# Altium schematic symbol library XoomFloppy Pro.SCHLIB: 23 symbols
Pins are listed as number, name and electrical type; pins without a type are passive.

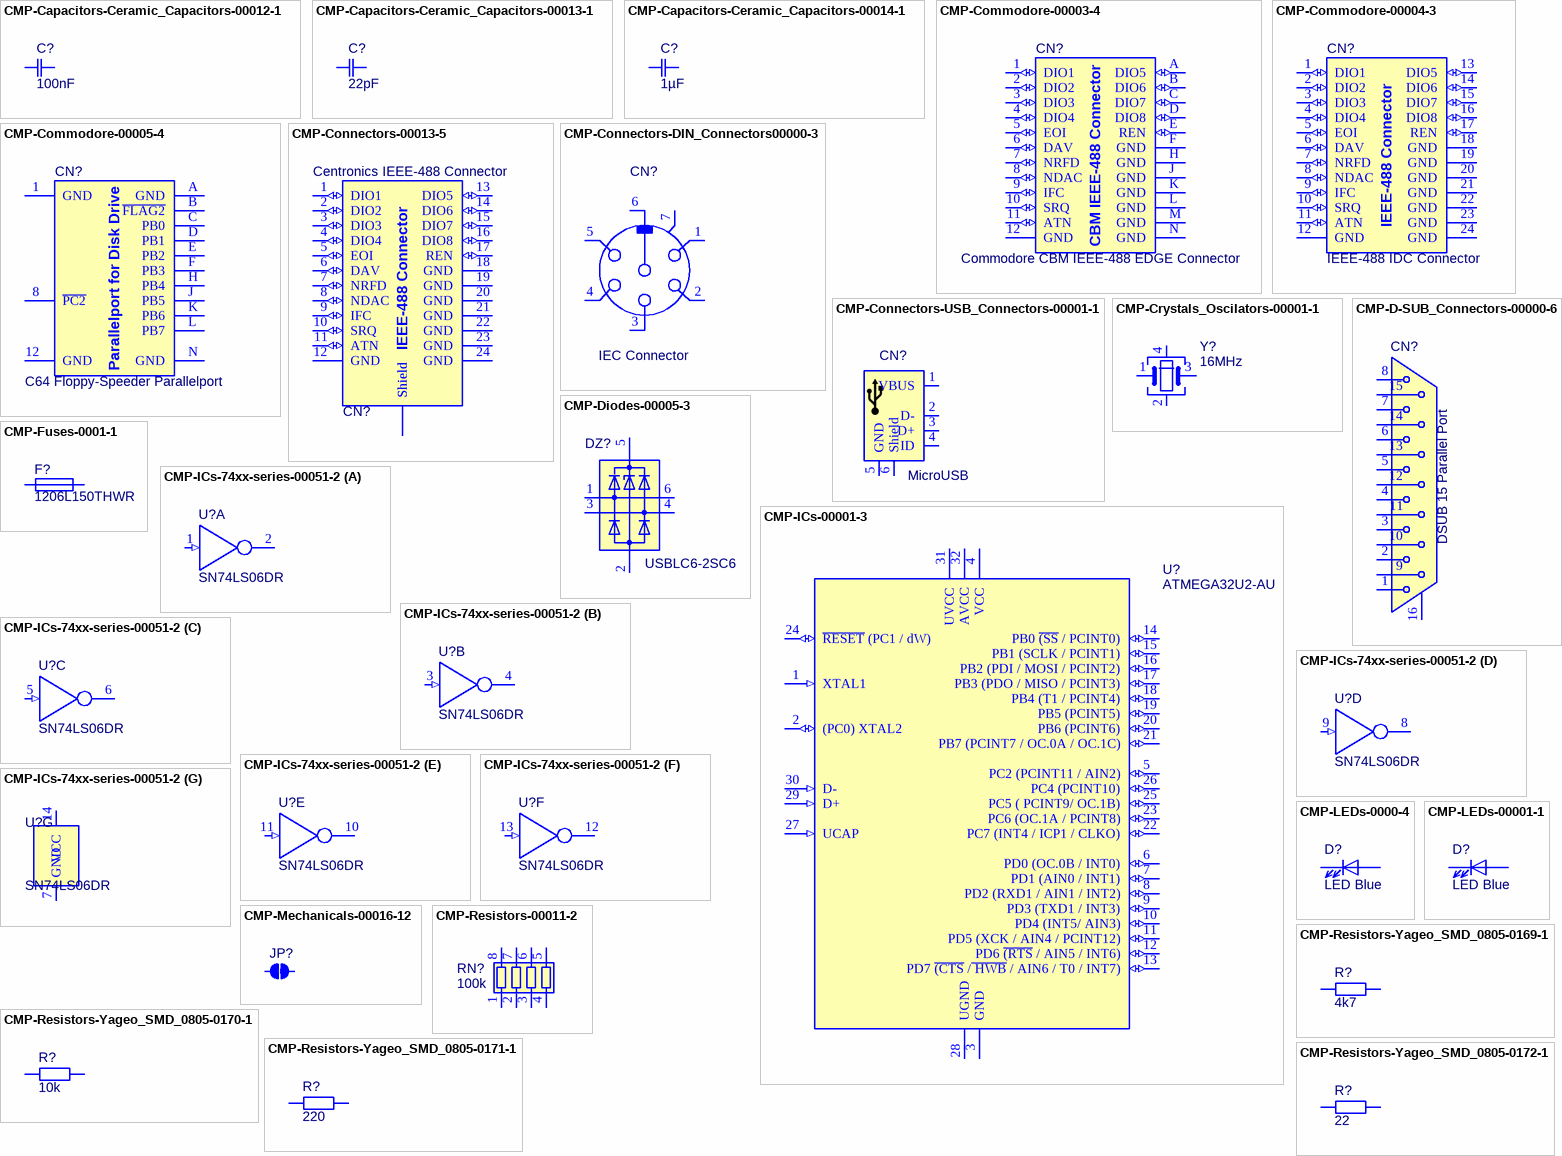
[diagram p0: symbols CMP-Capacitors-Ceramic_Capacitors-00012-1 to CMP-Resistors-Yageo_SMD_0805-0172-1]

## CMP-Capacitors-Ceramic_Capacitors-00012-1
designator C?, comment 100nF
KEMET         C0603C104J3RACTU             SMD Multilayer Ceramic Capacitor, 0603 [1608 Metric], 0.1 F, 25 V,  5%, X7R, C Series; Voltage Rating (DC): 25V; Height: 0.8mm; Dielectric: X7R; Case Code (Metric): 1608; Width: 0.031inch; Depth: 0.8mm; Min Operating Temperature: -55°C; Number of Pins: 2; Mount: Surface Mount,PCB; REACH SVHC: No SVHC; Packaging: Tape and Reel; Case Code (Imperial): 0603; Contact Plating: Tin,Matte; Length: 1.6mm; Case/Package: 0603; Lead Pitch: 0.7mm; Package Quantity: 4000; Tolerance: 5%; Radiation Hardening: No; Dielectric Material: Ceramic; Voltage: 25V; Termination: SMD/SMT; Capacitance: 100nF; Voltage Rating: 25V; Thickness: 0.034inch; Max Operating Temperature: 125°C; Manufacturer: KEMET; Manufacturer Part Number: C0603C104J3RACTU; Component Type: Ceramic Capacitors
footprint CAP 100nF SMD 0603 C0603C104J3RACTU (Chip Capacitor, 2-Leads, Body 1,60x0,80mm, IPC Medium Density)
pins: 1, 2

## CMP-Capacitors-Ceramic_Capacitors-00013-1
designator C?, comment 22pF
22.0PF 50.0V; Manufacturer: KEMET; Manufacturer Part Number: C0603C220J5RACTU; Tolerance: 5%; Dielectric: X7R; Voltage Rating (DC): 50V; Dielectric Material: Ceramic; Capacitance: 2.2E-11F; Case/Package: 0603; Component Type: Ceramic Capacitors
footprint CAP 22pF SMD 0603 C0603C220J5RAC7867 (Chip Capacitor, 2-Leads, Body 1,60x0,80mm, IPC Medium Density)
pins: 1, 2

## CMP-Capacitors-Ceramic_Capacitors-00014-1
designator C?, comment 1µF
KEMET 1F Multilayer Ceramic Capacitor (MLCC) 25 V 10% X7R dielectric C SMD max op. temp. +125C; Manufacturer Part Number: C0603C105K3RACTU; Dissipation Factor: 5%; Voltage Rating: 25V; Capacitance: 1uF; Case Code (Imperial): 0603; Termination: SMD/SMT; Thickness: 0.034inch; REACH SVHC: No SVHC; Depth: 0.8mm; Width: 0.031inch; Case Code (Metric): 1608; Min Operating Temperature: -55°C; Dielectric: X7R; Package Quantity: 1; Packaging: Tape and Reel; Height: 0.8mm; Max Operating Temperature: 125°C; Tolerance: 10%; Voltage Rating (DC): 25V; Voltage: 25V; Dielectric Material: Ceramic; Case/Package: 0603; Mount: Surface Mount; Length: 1.6mm; Manufacturer: KEMET; Component Type: Ceramic Capacitors
footprint CAP 1µF SMD 0603 C0603C105K3RACTU (Chip Capacitor, 2-Leads, Body 1,60x0,80mm, IPC Medium Density)
pins: 1, 2

## CMP-Commodore-00003-4
designator CN?, comment Commodore CBM IEEE-488 EDGE Connector
PCB connector for connecting IEEE-488 devices; Component Type: Commodore
footprint CBM IEEE-488 EDGE Connector
pins: 1 DIO1 (io), 2 DIO2 (io), 3 DIO3 (io), 4 DIO4 (io), 5 EOI (io), 6 DAV (io), 7 NRFD (io), 8 NDAC (io), 9 IFC (io), 10 SRQ (io), 11 ATN (io), 12 GND, A DIO5 (io), B DIO6 (io), C DIO7 (io), D DIO8 (io), E REN (io), F GND, H GND, J GND, K GND, L GND, M GND, N GND
text: CBM IEEE-488 Connector

## CMP-Commodore-00004-3
designator CN?, comment IEEE-488 IDC Connector
IEEE-488 IDC Connector Right Angle or Straight; Component Type: Commodore
footprint IEEE-488 IDC Header 2x12 P2.54mm Straight
footprint IEEE-488 IDC Header 2x12 P2.54mm Right Angle
pins: 1 DIO1 (io), 2 DIO2 (io), 3 DIO3 (io), 4 DIO4 (io), 5 EOI (io), 6 DAV (io), 7 NRFD (io), 8 NDAC (io), 9 IFC (io), 10 SRQ (io), 11 ATN (io), 12 GND, 13 DIO5 (io), 14 DIO6 (io), 15 DIO7 (io), 16 DIO8 (io), 17 REN (io), 18 GND, 19 GND, 20 GND, 21 GND, 22 GND, 23 GND, 24 GND
text: IEEE-488 Connector

## CMP-Commodore-00005-4
designator CN?, comment C64 Floppy-Speeder Parallelport
EDGE Connector like C64 Userport for "SpeedDOS"; Component Type: Commodore
footprint C64 User Port (C64 User Port Edge Connector)
pins: 1 GND, 2 N/C hidden, 3 N/C hidden, 4 N/C hidden, 5 N/C hidden, 6 N/C hidden, 7 N/C hidden, 8 ~{PC2}, 9 N/C hidden, 10 N/C hidden, 11 N/C hidden, 12 GND, A GND, B ~{FLAG2}, C PB0, D PB1, E PB2, F PB3, H PB4, J PB5, K PB6, L PB7, M N/C hidden, N GND
text: Parallelport for Disk Drive

## CMP-Connectors-00013-5
designator CN?, comment Centronics IEEE-488 Connector
L-COM - CIB24SRA - CONNECTOR GPIB R/A FEMALE; Manufacturer: L-Com; Manufacturer Part Number: CIB24SRA; Component Type: Connectors
footprint GPIB Centronics Female 2x12pos. Connector
pins: 1 DIO1 (io), 2 DIO2 (io), 3 DIO3 (io), 4 DIO4 (io), 5 EOI (io), 6 DAV (io), 7 NRFD (io), 8 NDAC (io), 9 IFC (io), 10 SRQ (io), 11 ATN (io), 12 GND, 13 DIO5 (io), 14 DIO6 (io), 15 DIO7 (io), 16 DIO8 (io), 17 REN (io), 18 GND, 19 GND, 20 GND, 21 GND, 22 GND, 23 GND, 24 GND, H1 Hole hidden, H2 Hole hidden, Shield1 Shield, Shield2 Shield
text: IEEE-488 Connector

## CMP-Connectors-DIN_Connectors00000-3
designator CN?, comment IEC Connector
DIN chassis socket, right angle version, with ground contact, suitable for locking, for printed circuit boards; Manufacturer: Lumberg; Manufacturer Part Number: 010599 06; Component Type: DIN Connectors
footprint DIN 45322 Circular Connector (DIN-6)
pins: 1, 2, 3, 4, 5, 6, 7, 8

## CMP-Connectors-USB_Connectors-00001-1
designator CN?, comment MicroUSB
Socket micro-USB B 5P, 629105150521, Würth Elektronik; Manufacturer: Wurth Electronics; Gender: Receptacle; Number of Contacts: 5; USB Standard: USB 2.0; Connector Type: USB; Orientation: Right Angle; Lead Free: Lead Free; Mount: Surface Mount,Horizontal; REACH SVHC: Unknown; Contact Plating: Gold; Packaging: Tape and Reel; Termination: SMD/SMT; Features: Shielded; Contact Material: Copper Alloy; Manufacturer Part Number: 629105150521; Component Type: USB Connectors
footprint MicroUSB Connector Right Angle Receptacle (Würth 629105150521)
pins: 1 VBUS (power), 2 D-, 3 D+, 4 ID (power), 5 GND (power), 6 Shield, 7 Shield, 8 Shield, 9 Shield, 10 Mounting Hole hidden, 11 Mounting Hole hidden

## CMP-Crystals_Oscilators-00001-1
designator Y?, comment 16MHz
16MHz ±10ppm 9pF 200Ω SMD,2.0x1.6mm SMD Crystal Resonators RoHS; Manufacturer: Raltron Electronics; Manufacturer Part Number: R2016-16.000-9-1010-TR-NS1; Component Type: Crystals and Oscilators
footprint Crystal 16MHz SMD 2.0x1.6mm 4pos GND2-4
pins: 1, 2, 3, 4

## CMP-D-SUB_Connectors-00000-6
designator CN?, comment DSUB 15 Parallel Port
HARTING         09 64 223 7802             Filtered D Sub Connector, Ferrite, DA, Plug, 15 Contacts, 0 F, Steel Body; Manufacturer: HARTING Technology; Current Rating: 7.5A; Number of Positions: 15; Gender: Male; Pitch: 2.77mm; Capacitance: 0pF; Connector Type: D-Sub,Plug,Signal; Voltage Rating: 250V; Orientation: Right Angle; Min Operating Temperature: -55°C; Contact Plating: Gold; Width: 18.5mm; Termination: Solder; Max Operating Temperature: 105°C; Package Quantity: 70; Length: 39.2mm; Depth: 12.5mm; Number of Contacts: 15; Number of Rows: 2; Housing Material: PBT; Material: Polybutylene; Packaging: Bulk; Mount: Through Hole,Panel; Body Material: Steel; REACH SVHC: No SVHC; Manufacturer Part Number: 09642237802; Component Type: D-SUB Connectors
footprint D-SUB 15 Male Connector Right Angle 8.1mm
pins: 1, 2, 3, 4, 5, 6, 7, 8, 9, 10, 11, 12, 13, 14, 15, 16, 17

## CMP-Diodes-00005-3
designator DZ?, comment USBLC6-2SC6
TVS DIODE 5.25V 17V SOT23-6; Manufacturer: STMicroelectronics; Working Voltage: 5V; Test Current: 1mA; Direction: Unidirectional,Bidirectional; Leakage Current: 150nA; Capacitance: 3.5pF; Number of Bidirectional Channels: 2; Max Breakdown Voltage: 6V; ESD Protection: Yes; Operating Supply Voltage: 1.1V; Element Configuration: Dual; Peak Pulse Current: 5A; Number of Elements: 1; Data Rate: 480Mbps; Package Quantity: 3000; Max Operating Temperature: 125°C; Width: 1.75mm; Contact Plating: Tin,Matte; Packaging: Tape and Reel; Termination: SMD/SMT; Max Reverse Leakage Current: 150nA; Min Operating Temperature: -40°C; Power Line Protection: Yes; Radiation Hardening: No; REACH SVHC: No SVHC; Breakdown Voltage: 6V; Length: 3.05mm; Clamping Voltage: 17V; Mount: Surface Mount; Depth: 1.75mm; Number of Pins: 6; Reverse Standoff Voltage: 5.25V; Number of Channels: 2; Min Breakdown Voltage: 6V; Height: 1.3mm; Reverse Breakdown Voltage: 6V; Polarity: Unidirectional,Bidirectional; Case/Package: SOT-23; Lead Free: Lead Free; Manufacturer Part Number: USBLC6-2SC6; Component Type: Diodes
footprint USBLC6-2SC6 (ESD Suppressors / TVS Diodes ESD Protection Low Cap)
pins: 1, 2, 3, 4, 5, 6

## CMP-Fuses-0001-1
designator F?, comment 1206L150THWR
PTC RESET FUSE 8V 1.5A 1206; Manufacturer: Littelfuse; Time to Trip: 0.3s; Working Voltage: 6V; Current Rating: 100A; Resistance: 120mR; Power Dissipation: 800mW; Approvals: cULus,TUV; Trip Current: 3A; Voltage Rating: 8V; Package Quantity: 3000; Packaging: Tape and Reel; Termination: SMD/SMT; Length: 3.4mm; REACH SVHC: Unknown; Terminal Material: Copper; Voltage Rating (DC): 8V; Max Operating Temperature: 85°C; Min Operating Temperature: -40°C; Lead Free: Lead Free; Case Code (Metric): 3216; Hold Current: 1.5A; Width: 1.8mm; Height: 0.75mm; Operating Supply Voltage: 8V; Max Current Rating: 100A; Max Voltage Rating (DC): 8V; Case Code (Imperial): 1206; Case/Package: 1206; Manufacturer Part Number: 1206L150THWR; Component Type: Fuses
footprint Littelfuse 1206L150THWR
pins: 1, 2

## CMP-ICs-00001-3
designator U?, comment ATMEGA32U2-AU
ATMEL         ATMEGA32U2-AU            MCU, 8BIT, MEGAAVR, 16MHZ, TQFP-32; Manufacturer: Microchip / Atmel; Core Architecture: AVR; Max Supply Voltage: 5.5V; Peripherals: Brown-out Detect/Reset,POR,PWM,WDT; Density: 32KB; Oscillator Type: Internal; Min Supply Voltage: 2.7V; Number of PWM Channels: 5; Number of Timers/Counters: 2; Memory Type: FLASH; Number of SPI Channels: 1; Watchdog Timer: Yes; Data Bus Width: 8b; Interface: SPI,USB,UART,USART; Number of I/Os: 22; RAM Size: 1KB; Frequency: 16MHz; Height: 1.05mm; Termination: SMD/SMT; Max Frequency: 16MHz; Number of Pins: 32; Packaging: Tray; Lead Free: Lead Free; Max Operating Temperature: 85°C; REACH SVHC: No SVHC; Memory Size: 32KB; Mount: Surface Mount; Radiation Hardening: No; Contact Plating: Tin,Matte; Package Quantity: 1250; Width: 7mm; Number of Programmable I/O: 22; Length: 7mm; Min Operating Temperature: -40°C; Case/Package: A; Manufacturer Part Number: ATMEGA32U2-AU; Component Type: Processors
footprint TQFP-32 P0.8mm 7x7mm ATMega32u2 (TQFP, 32-Leads, Body 7,00x7,00mm, Pitch 0,80mm, IPC Medium Density)
pins: 1 XTAL1 (in), 2 (PC0) XTAL2 (io), 3 GND, 4 VCC (power), 5 PC2 (PCINT11 / AIN2) (io), 6 PD0 (OC.0B / INT0) (io), 7 PD1 (AIN0 / INT1) (io), 8 PD2 (RXD1 / AIN1 / INT2) (io), 9 PD3 (TXD1 / INT3) (io), 10 PD4 (INT5/ AIN3) (io), 11 PD5 (XCK / AIN4 / PCINT12) (io), 12 PD6 ~{(RTS} / AIN5 / INT6) (io), 13 PD7 ~{(CTS} /~{ HWB} / AIN6 / T0 / INT7) (io), 14 PB0 ~{(SS} / PCINT0) (io), 15 PB1 (SCLK / PCINT1) (io), 16 PB2 (PDI / MOSI / PCINT2) (io), 17 PB3 (PDO / MISO / PCINT3) (io), 18 PB4 (T1 / PCINT4) (io), 19 PB5 (PCINT5) (io), 20 PB6 (PCINT6) (io), 21 PB7 (PCINT7 / OC.0A / OC.1C) (io), 22 PC7 (INT4 / ICP1 / CLKO) (io), 23 PC6 (OC.1A / PCINT8) (io), 24 ~{RESET} (PC1 / dW) (io), 25 PC5 ( PCINT9/ OC.1B) (io), 26 PC4 (PCINT10) (io), 27 UCAP (in), 28 UGND, 29 D+ (in), 30 D- (in), 31 UVCC (power), 32 AVCC (power)

## CMP-ICs-74xx-series-00051-2
designator U?, comment SN74LS06DR
IC INVERTER OPEN COL 6CH 14SOIC; Manufacturer: Texas Instruments; Propagation Delay: 20ns; High Level Output Current: -250uA; Logic Function: Buffer,Inverter; Polarity: Inverting; Max Supply Voltage: 5.25V; Number of Inputs: 6; Operating Supply Voltage: 5V; Min Supply Voltage: 4.75V; Low Level Output Current: 40mA; Lead Free: Lead Free; Radiation Hardening: No; Package Quantity: 1; Max Operating Temperature: 70°C; REACH SVHC: No SVHC; Turn-On Delay Time: 20ns; Mount: Surface Mount; Number of Pins: 14; Number of Elements: 6; Packaging: Tape and Reel; Number of Outputs: 6; Number of Bits: 6; Number of Input Lines: 6; Min Operating Temperature: 0°C; Number of Channels: 6; Case/Package: SOIC; Number of Gates: 6; Contact Plating: Gold; Number of Circuits: 6; Number of Output Lines: 6; Manufacturer Part Number: SN74LS06DR; Component Type: 74xx-series
footprint SN74LS06DR SOIC-14 P1.27mm W3.9mm (SOIC, 14-Leads, Body 8,65x3,90mm, Pitch 1,27mm, IPC Medium Density)
part A pins: 1 1A (in), 2 1Y (oc)
part B pins: 3 2A (in), 4 2Y (oc)
part C pins: 5 3A (in), 6 3Y (oc)
part D pins: 8 4Y (oc), 9 4A (in)
part E pins: 10 5Y (oc), 11 5A (in)
part F pins: 12 6Y (oc), 13 6A (in)
part G pins: 7 GND, 14 VCC (power)

## CMP-LEDs-0000-4
designator D?, comment LED Blue
WURTH ELEKTRONIK   151033BS03000   LED, 3MM, BLUE, 3800MCD, 470NM; Manufacturer: Wurth Electronics; Forward Current: 30mA; Viewing Angle: 30°; Forward Voltage: 2.8V; Lens Style: Clear,Circular,Round; Test Current: 20mA; Wavelength: 470nm; Color: Blue; Package Quantity: 1; Luminous Intensity: 3800mcd; Lens Size: 3mm; Dominant Wavelength: 470nm; Packaging: Bulk; Mount: Through Hole; REACH SVHC: Unknown; Min Operating Temperature: -40°C; Case/Package: Radial; Max Operating Temperature: 85°C; Height: 5.55mm; Manufacturer Part Number: 151033BS03000; Component Type: LEDs
footprint LED 3mm Blue Straight
pins: 1, 2

## CMP-LEDs-00001-1
designator D?, comment LED Blue
LED BLUE DIFFUSED 0603 SMD; Manufacturer: Wurth Electronics; Manufacturer Part Number: 150060BS55040; Lens Style: Flat; Lens Size: 0.8mm; Viewing Angle: 140°; Test Current: 20mA; Dominant Wavelength: 470nm; Forward Voltage: 3.2V; Luminous Intensity: 80mcd; Case/Package: 0603; Length: 1.6mm; Lens Transparency: Diffused; Height: 0.5mm; Color: Blue; Mount: Surface Mount; Width: 0.8mm; Packaging: Tape and Reel; Component Type: LEDs
footprint LED Blue SMD 0603
pins: 1, 2

## CMP-Mechanicals-00016-12
designator JP?, comment Solder Jumper Open  (value not drawn)
Component Type: Mechanicals
footprint Solder Jumper Open Variant 2
pins: 1, 2

## CMP-Resistors-00011-2
designator RN?, comment 100k
RES ARRAY 4 RES 100K OHM 0804; Manufacturer: Yageo; Manufacturer Part Number: TC124-FR-07100KL; Circuit Type: Isolated; Number of Circuits: 4; Power Per Element: 62.5mW; Resistance: 100kR; Tolerance: 1%; Temperature Coefficient: 200ppm/°C; Packaging: Tape and Reel; Length: 0.079inch; Width: 0.039inch; Mount: Surface Mount; Number of Resistors: 4; Number of Pins: 8; Case/Package: 0804; Min Operating Temperature: -55°C; Height: 0.02inch; Max Operating Temperature: 125°C; Component Type: Resistors
footprint RES ARRAY 4 RES 100K OHM 0804 (Chip Array, Concave, 8-Leads, Pitch 0,50mm,  Body 2,00x1,00mm,  IPC Medium Density)
pins: 1, 2, 3, 4, 5, 6, 7, 8

## CMP-Resistors-Yageo_SMD_0805-0169-1
designator R?, comment 4k7
RES SMD 4.7K OHM 1% 1/10W 0603; Manufacturer: Yageo; Manufacturer Part Number: RC0603FR-074K7L; Resistance: 4.7kR; Voltage Rating: 50V; Temperature Coefficient: 100ppm/°C; Power Rating: 100mW; Military Standard: Not; Packaging: Tape and Reel; Tolerance: 1%; Case Code (Imperial): 0603; Composition: Thick Film; Min Operating Temperature: -55°C; Width: 0.8mm; Length: 1.6mm; Termination: SMD/SMT; Case/Package: 0603; Lead Pitch: 0.3mm; Lead Free: Lead Free; Max Operating Temperature: 155°C; Voltage Rating (DC): 50V; REACH SVHC: No SVHC; Case Code (Metric): 1608; Depth: 0.8mm; Number of Pins: 2; Height: 0.45mm; Component Type: Yageo SMD 0805
footprint 4,7k Ohm R 0603 SMD (Chip Resistor 2-Leads, Body 1,60x0,80mm, IPC Medium Density)
pins: 1, 2

## CMP-Resistors-Yageo_SMD_0805-0170-1
designator R?, comment 10k
RES SMD 10K OHM 1% 1/10W 0603; Manufacturer: Yageo; Manufacturer Part Number: RC0603FR-0710KL; Voltage Rating (DC): 50V; Power Rating: 100mW; Resistance: 10kR; Voltage Rating: 75V; Temperature Coefficient: 100ppm/°C; Length: 1.6mm; Height: 0.45mm; Min Operating Temperature: -55°C; Military Standard: Not; REACH SVHC: No SVHC; Lead Pitch: 0.3mm; Lead Free: Lead Free; Case/Package: 0603; Packaging: Tape and Reel; Number of Pins: 2; Tolerance: 1%; Termination: SMD/SMT; Composition: Thick Film; Width: 0.8mm; Weight: 7.1E-05oz; Case Code (Metric): 1608; Depth: 0.8mm; Max Operating Temperature: 155°C; Case Code (Imperial): 0603; Component Type: Yageo SMD 0805
footprint 10k Ohm R 0603 SMD (Chip Resistor 2-Leads, Body 1,60x0,80mm, IPC Medium Density)
pins: 1, 2

## CMP-Resistors-Yageo_SMD_0805-0171-1
designator R?, comment 220
RES SMD 220 OHM 1% 1/10W 0603; Manufacturer: Yageo; Manufacturer Part Number: RC0603FR-07220RL; Resistance: 220R; Voltage Rating: 50V; Temperature Coefficient: 100ppm/°C; Power Rating: 100mW; Number of Pins: 2; Width: 0.031inch; Case Code (Imperial): 0603; Case Code (Metric): 1608; Max Operating Temperature: 155°C; Length: 1.6mm; Composition: Thick Film; Package Quantity: 1; Tolerance: 1%; Height: 0.022inch; REACH SVHC: No SVHC; Lead Free: Lead Free; Features: Moisture Resistant; Number of Terminations: 2; Voltage Rating (DC): 50V; Depth: 0.8mm; Case/Package: 0603; Military Standard: Not; Termination: SMD/SMT; Max Power Dissipation: 100mW; Packaging: Tape and Reel; Min Operating Temperature: -55°C; Component Type: Yageo SMD 0805
footprint 220 Ohm R 0603 SMD (Chip Resistor 2-Leads, Body 1,60x0,80mm, IPC Medium Density)
pins: 1, 2

## CMP-Resistors-Yageo_SMD_0805-0172-1
designator R?, comment 22
RES SMD 22 OHM 1% 1/10W 0603; Manufacturer: Yageo; Manufacturer Part Number: RC0603FR-0722RL; Temperature Coefficient: 100ppm/°C; Resistance: 22R; Max Power Dissipation: 100mW; Voltage Rating: 50V; Width: 0.031inch; Termination: SMD/SMT; REACH SVHC: No SVHC; Number of Terminations: 2; Case/Package: 0603; Composition: Thick Film; Lead Free: Lead Free; Case Code (Metric): 1608; Features: Moisture Resistant; Packaging: Tape and Reel; Length: 1.6mm; Military Standard: Not; Height: 0.022inch; Case Code (Imperial): 0603; Max Operating Temperature: 155°C; Depth: 0.8mm; Min Operating Temperature: -55°C; Package Quantity: 1; Power Rating: 100mW; Tolerance: 1%; Number of Pins: 2; Voltage Rating (DC): 50V; Component Type: Yageo SMD 0805
footprint 22 Ohm R 0603 SMD (Chip Resistor 2-Leads, Body 1,60x0,80mm, IPC Medium Density)
pins: 1, 2